# EAGLE library part XR16M681IL24-F (library Exar_By_element14_Batch_1)
UART WITH 16-BYTE FIFO AND VLIO INTERFACE
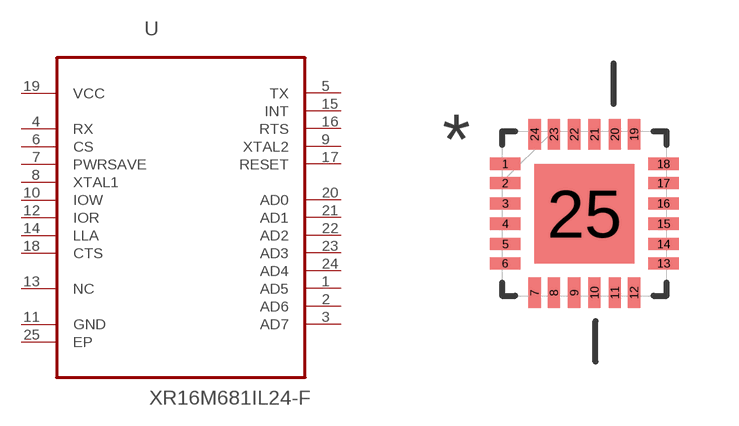
[diagram p69: symbol with the pads of QFN50P400X400X100-25N; footprint QFN50P400X400X100-25N]

Designator prefix U

## XR16M681IL24-F (MPN: XR16M681IL24-F; OC_FARNELL: 1829417; OC_NEWARK: 60R5481; PACKAGE: QFN-24; SUPPLIER: EXAR)  [QFN50P400X400X100-25N]
1  AD5
2  AD6
3  AD7
4  RX  in
5  TX  out
6  CS  in
7  PWRSAVE  in
8  XTAL1  in
9  XTAL2  out
10  IOW  in
11  GND  pas
12  IOR  in
13  NC  nc
14  LLA  in
15  INT  out
16  RTS  out
17  RESET  out
18  CTS  in
19  VCC  pwr
20  AD0
21  AD1
22  AD2
23  AD3
24  AD4
25  EP  pas

## Footprint QFN50P400X400X100-25N (pad centres in mm)
smd 0.762 x 0.305: 1 -1.981,1.245; 2 -1.981,0.762; 3 -1.981,0.254; 4 -1.981,-0.254; 5 -1.981,-0.762; 6 -1.981,-1.245; 13 1.981,-1.245; 14 1.981,-0.762; 15 1.981,-0.254; 16 1.981,0.254; 17 1.981,0.762; 18 1.981,1.245
smd 0.305 x 0.762: 7 -1.245,-1.981; 8 -0.762,-1.981; 9 -0.254,-1.981; 10 0.254,-1.981; 11 0.762,-1.981; 12 1.245,-1.981; 19 1.245,1.981; 20 0.762,1.981; 21 0.254,1.981; 22 -0.254,1.981; 23 -0.762,1.981; 24 -1.245,1.981
smd 2.489 x 2.489: 25 0,0